# Altium footprint library Terminal_Block.PcbLib: 61 footprints (part 1 of 4)
Each footprint in its own frame and in the unit in brackets; x right, y up, seen from the top. Pads: shape width x height; smd on the part's side, far side on the other; paste and mask are expansions set on the pad; w line width, h text height; cw(c..) or ccw(c..) is an arc to the next point about the centre after c.
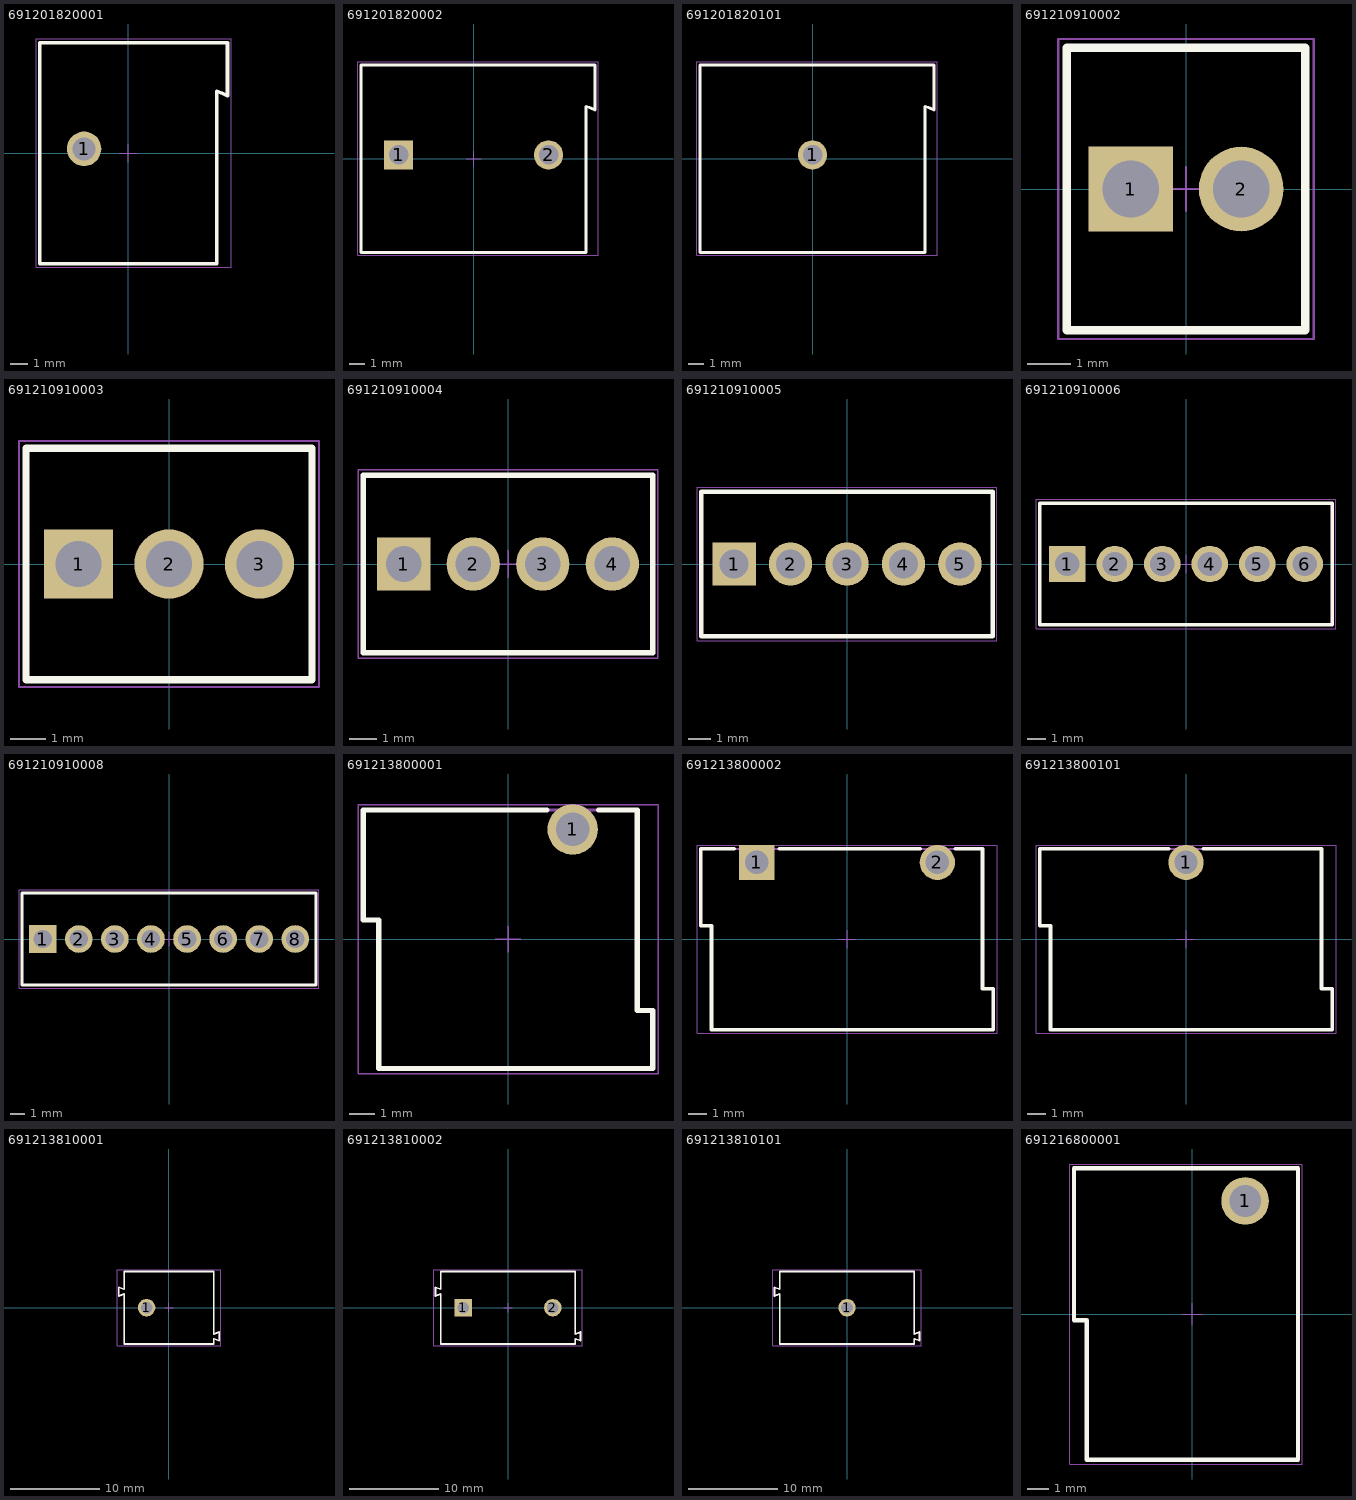
[diagram p0: the footprints below, top view; thin cyan lines are the x and y axes]

## 691201820001 [mm] "45° Cable Entry with Rising Cage Clamp, pitch 10mm, 01p"
height 12
pads (1):
  round 1.95 hole 1.3: 1(-2.5,0.25)
Top Overlay:
  lines w0.2: 4.998,-6.248 4.998,3.494 cw(c2.595,-3.291) 5.6,3.25 5.6,6.25 -5,6.25 -5,-6.25 5,-6.25
Mechanical 13:
  lines w0.1: 4.998,-6.248 4.998,3.494 cw(c2.595,-3.291) 5.6,3.25 5.6,6.25 -5,6.25 -5,-6.25 5,-6.25
Mechanical 15:
  lines w0.05: -0.5,0 0.5,0 ; 0,-0.5 0,0.5 ; -5.2,-6.45 -5.2,6.45 5.8,6.45 5.8,-6.45 -5.2,-6.45
3D body "691201820001.stp": height 12.1, standoff -4.4, extent -5,-6.25 5.6,6.25

## 691201820002 [mm] "45° Cable Entry with Rising Cage Clamp, pitch 10mm, 02p"
height 12
pads (2):
  rect 1.95x1.95 hole 1.3: 1(-5,0.25)
  round 1.95 hole 1.3: 2(5,0.25)
Top Overlay:
  lines w0.2: 7.498,3.494 cw(c5.095,-3.291) 8.1,3.25 8.1,6.25 -7.5,6.25 -7.5,-6.25 7.5,-6.25 7.5,3.494
Mechanical 13:
  lines w0.1: 7.498,3.494 cw(c5.095,-3.291) 8.1,3.25 8.1,6.25 -7.5,6.25 -7.5,-6.25 7.5,-6.25 7.5,3.494
Mechanical 15:
  lines w0.05: -0.5,0 0.5,0 ; 0,-0.5 0,0.5 ; -7.7,-6.45 -7.7,6.45 8.3,6.45 8.3,-6.45 -7.7,-6.45
3D body "691201820002.stp": height 12.1, standoff -4.4, extent -7.5,-6.25 8.1,6.25

## 691201820101 [mm] "45° Cable Entry with Rising Cage Clamp, pitch 10mm, 01p"
height 12
pads (1):
  round 1.95 hole 1.3: 1(0,0.25)
Top Overlay:
  lines w0.2: 7.498,3.494 cw(c5.095,-3.291) 8.1,3.25 8.1,6.25 -7.5,6.25 -7.5,-6.25 7.5,-6.25 7.5,3.494
Mechanical 13:
  lines w0.1: 7.498,3.494 cw(c5.095,-3.291) 8.1,3.25 8.1,6.25 -7.5,6.25 -7.5,-6.25 7.5,-6.25 7.5,3.494
Mechanical 15:
  lines w0.05: -0.5,0 0.5,0 ; 0,-0.5 0,0.5 ; -7.7,-6.45 8.3,-6.45 8.3,6.45 -7.7,6.45 -7.7,-6.45
3D body "691201820101.stp": height 12.1, standoff -4.4, extent -7.5,-6.25 8.1,6.25

## 691210910002 [mm] "2,54mm - modular - green - Horizontal wire entry - Cage clamp - 0,8mm2 wires - 02p"
height 8.5
pads (2):
  rect 1.95x1.95 hole 1.3: 1(-1.27,0)
  round 1.95 hole 1.3: 2(1.27,0)
Top Overlay:
  lines w0.2: -2.74,-3.25 -2.74,3.25 2.74,3.25 2.74,-3.25 -2.74,-3.25
Mechanical 13:
  lines w0.1: -2.74,-3.25 2.74,-3.25 2.74,3.25 -2.74,3.25 -2.74,-3.25
Mechanical 15:
  lines w0.05: -0.5,0 0.5,0 ; 0,-0.5 0,0.5 ; -2.94,-3.45 2.94,-3.45 2.94,3.45 -2.94,3.45 -2.94,-3.45
3D body "691210910002.stp": height 8.55, standoff -3.45, extent -2.74,-3.25 2.74,3.25

## 691210910003 [mm] "2,54mm - modular - green - Horizontal wire entry - Cage clamp - 0,8mm2 wires - 03p"
height 8.5
pads (3):
  rect 1.95x1.95 hole 1.3: 1(-2.54,0)
  round 1.95 hole 1.3: 2(0,0) 3(2.54,0)
Top Overlay:
  lines w0.2: -4.01,-3.25 -4.01,3.25 4.01,3.25 4.01,-3.25 -4.01,-3.25
Mechanical 13:
  lines w0.1: -4.01,-3.25 4.01,-3.25 4.01,3.25 -4.01,3.25 -4.01,-3.25
Mechanical 15:
  lines w0.05: -0.5,0 0.5,0 ; 0,-0.5 0,0.5 ; -4.21,-3.45 4.21,-3.45 4.21,3.45 -4.21,3.45 -4.21,-3.45
3D body "691210910003.stp": height 8.55, standoff -3.45, extent -4.01,-3.25 4.01,3.25

## 691210910004 [mm] "2,54mm - modular - green - Horizontal wire entry - Cage clamp - 0,8mm2 wires - 04p"
height 8.5
pads (4):
  rect 1.95x1.95 hole 1.3: 1(-3.81,0)
  round 1.95 hole 1.3: 2(-1.27,0) 3(1.27,0) 4(3.81,0)
Top Overlay:
  lines w0.2: -5.28,-3.25 -5.28,3.25 5.28,3.25 5.28,-3.25 -5.28,-3.25
Mechanical 13:
  lines w0.1: -5.28,-3.25 5.28,-3.25 5.28,3.25 -5.28,3.25 -5.28,-3.25
Mechanical 15:
  lines w0.05: -0.5,0 0.5,0 ; 0,-0.5 0,0.5 ; -5.48,-3.45 5.48,-3.45 5.48,3.45 -5.48,3.45 -5.48,-3.45
3D body "691210910004.stp": height 8.55, standoff -3.45, extent -5.28,-3.25 5.28,3.25

## 691210910005 [mm] "2,54mm - modular - green - Horizontal wire entry - Cage clamp - 0,8mm2 wires - 05p"
height 8.5
pads (5):
  rect 1.95x1.95 hole 1.3: 1(-5.08,0)
  round 1.95 hole 1.3: 2(-2.54,0) 3(0,0) 4(2.54,0) 5(5.08,0)
Top Overlay:
  lines w0.2: -6.55,-3.25 6.55,-3.25 6.55,3.25 -6.55,3.25 -6.55,-3.25
Mechanical 13:
  lines w0.1: -6.55,-3.25 -6.55,3.25 6.55,3.25 6.55,-3.25 -6.55,-3.25
Mechanical 15:
  lines w0.05: -0.5,0 0.5,0 ; 0,-0.5 0,0.5 ; -6.75,-3.45 -6.75,3.45 6.75,3.45 6.75,-3.45 -6.75,-3.45
3D body "691210910005.stp": height 8.55, standoff -3.45, extent -6.55,-3.25 6.55,3.25

## 691210910006 [mm] "2,54mm - modular - green - Horizontal wire entry - Cage clamp - 0,8mm2 wires - 06p"
height 8.5
pads (6):
  rect 1.95x1.95 hole 1.3: 1(-6.35,0)
  round 1.95 hole 1.3: 2(-3.81,0) 3(-1.27,0) 4(1.27,0) 5(3.81,0) 6(6.35,0)
Top Overlay:
  lines w0.2: -7.82,-3.25 -7.82,3.25 7.82,3.25 7.82,-3.25 -7.82,-3.25
Mechanical 13:
  lines w0.1: -7.82,-3.25 7.82,-3.25 7.82,3.25 -7.82,3.25 -7.82,-3.25
Mechanical 15:
  lines w0.05: -0.5,0 0.5,0 ; 0,-0.5 0,0.5 ; -8.02,-3.45 8.02,-3.45 8.02,3.45 -8.02,3.45 -8.02,-3.45
3D body "691210910006.stp": height 8.55, standoff -3.45, extent -7.82,-3.25 7.82,3.25

## 691210910008 [mm] "2,54mm - modular - green - Horizontal wire entry - Cage clamp - 0,8mm2 wires - 08p"
height 8.5
pads (8):
  rect 1.95x1.95 hole 1.3: 1(-8.89,0)
  round 1.95 hole 1.3: 2(-6.35,0) 3(-3.81,0) 4(-1.27,0) 5(1.27,0) 6(3.81,0) 7(6.35,0) 8(8.89,0)
Top Overlay:
  lines w0.2: -10.36,-3.25 10.36,-3.25 10.36,3.25 -10.36,3.25 -10.36,-3.25
Mechanical 13:
  lines w0.1: -10.36,-3.25 -10.36,3.25 10.36,3.25 10.36,-3.25 -10.36,-3.25
Mechanical 15:
  lines w0.05: -0.5,0 0.5,0 ; 0,-0.5 0,0.5 ; -10.56,-3.45 -10.56,3.45 10.56,3.45 10.56,-3.45 -10.56,-3.45
3D body "691210910008.stp": height 8.55, standoff -3.45, extent -10.36,-3.25 10.36,3.25

## 691213800001 [mm] "Vertical Cable Entry with Rising Cage Clamp, pitch 10mm, 01p"
height 8.1
pads (1):
  round 1.95 hole 1.3: 1(2.5,4.25)
Top Overlay:
  lines w0.2: 1.5,5 -5.6,5 -5.6,0.75 -5,0.75 -5,-5 5.6,-5 5.6,-2.75 5,-2.75 5,5 3.5,5
Mechanical 13:
  lines w0.1: -5.6,0.75 -5,0.75 -5,-5 5.6,-5 5.6,-2.75 5,-2.75 5,5 -5.6,5 -5.6,0.75
Mechanical 15:
  lines w0.05: -0.5,0 0.5,0 ; 0,-0.5 0,0.5 ; -5.8,-5.2 -5.8,5.2 5.8,5.2 5.8,-5.2 -5.8,-5.2
3D body "691213800001.stp": height 8.2, standoff -3.4, extent -5.6,-5 5.6,5

## 691213800002 [mm] "Vertical Cable Entry with Rising Cage Clamp, pitch 10mm, 02p"
height 8.1
pads (2):
  rect 1.95x1.95 hole 1.3: 1(-5,4.25)
  round 1.95 hole 1.3: 2(5,4.25)
Top Overlay:
  lines w0.2: -6.25,5 -8.1,5 -8.1,0.75 -7.5,0.75 -7.5,-5 8.1,-5 8.1,-2.75 7.5,-2.75 7.5,5 6,5 ; -3.75,5 4.05,5
Mechanical 13:
  lines w0.1: -8.1,0.75 -8.1,5 7.5,5 7.5,-2.75 8.1,-2.75 8.1,-5 -7.5,-5 -7.5,0.75 -8.1,0.75
Mechanical 15:
  lines w0.05: -0.5,0 0.5,0 ; 0,-0.5 0,0.5 ; -8.3,-5.2 -8.3,5.2 8.3,5.2 8.3,-5.2 -8.3,-5.2
3D body "691213800002.stp": height 8.2, standoff -3.4, extent -8.1,-5 8.1,5

## 691213800101 [mm] "Vertical Cable Entry with Rising Cage Clamp, pitch 10mm, 01p"
height 8.1
pads (1):
  round 1.95 hole 1.3: 1(0,4.25)
Top Overlay:
  lines w0.2: -0.95,5 -8.1,5 -8.1,0.75 -7.5,0.75 -7.5,-5 8.1,-5 8.1,-2.75 7.5,-2.75 7.5,5 0.95,5
Mechanical 13:
  lines w0.1: -8.1,0.75 -8.1,5 7.5,5 7.5,-2.75 8.1,-2.75 8.1,-5 -7.5,-5 -7.5,0.75 -8.1,0.75
Mechanical 15:
  lines w0.05: -0.5,0 0.5,0 ; 0,-0.5 0,0.5 ; -8.3,-5.2 -8.3,5.2 8.3,5.2 8.3,-5.2 -8.3,-5.2
3D body "691213800101.stp": height 8.2, standoff -3.4, extent -8.1,-5 8.1,5

## 691213810001 [mm] "Horizontal Cable Entry with Rising Cage Clamp, pitch 10mm, 01p"
height 10
pads (1):
  round 1.95 hole 1.3: 1(-2.5,0)
Top Overlay:
  lines w0.2: -5.602,1.294 -5.602,2.294 ccw(c-2.597,8.835) -5,2.05 -5,4.05 5,4.05 ; -5.601,1.291 cw(c-2.502,-5.206) -5.002,1.544 -5.002,-4.048 ; -5,-4.05 5,-4.05 5,-3.45 cw(c2.597,-10.235) 5.602,-3.694 5.602,-2.694 ; 5.002,4.048 5.002,-2.944 ccw(c2.502,3.806) 5.601,-2.691
Mechanical 13:
  lines w0.1: -5.602,1.294 -5.602,2.294 ccw(c-2.597,8.835) -5,2.05 -5,4.05 5,4.05 ; -5.601,1.291 cw(c-2.502,-5.206) -5.002,1.544 -5.002,-4.048 ; -5,-4.05 5,-4.05 5,-3.45 cw(c2.597,-10.235) 5.602,-3.694 5.602,-2.694 ; 5.002,4.048 5.002,-2.944 ccw(c2.502,3.806) 5.601,-2.691
Mechanical 15:
  lines w0.05: -0.5,0 0.5,0 ; 0,-0.5 0,0.5 ; -5.8,-4.25 5.8,-4.25 5.8,4.25 -5.8,4.25 -5.8,-4.25
3D body "691213810001.stp": height 10.14, standoff -3.36, extent -5.6,-4.05 5.6,4.05

## 691213810002 [mm] "Horizontal Cable Entry with Rising Cage Clamp, pitch 10mm, 02p"
height 10
pads (2):
  rect 1.95x1.95 hole 1.3: 1(-5,0)
  round 1.95 hole 1.3: 2(5,0)
Top Overlay:
  lines w0.2: -8.102,1.294 -8.102,2.294 ccw(c-5.097,8.835) -7.5,2.05 -7.5,4.05 7.5,4.05 7.5,-2.944 ccw(c5,3.806) 8.099,-2.691 ; -8.101,1.291 cw(c-5.002,-5.206) -7.502,1.544 ; -7.5,1.544 -7.5,-4.05 7.5,-4.05 7.5,-3.45 ; 7.498,-3.45 cw(c5.095,-10.235) 8.1,-3.694 8.1,-2.694
Mechanical 13:
  lines w0.1: -8.102,1.294 -8.102,2.294 ccw(c-5.097,8.835) -7.5,2.05 -7.5,4.05 7.5,4.05 7.5,-2.944 ccw(c5,3.806) 8.099,-2.691 ; -8.101,1.291 cw(c-5.002,-5.206) -7.502,1.544 ; -7.5,1.544 -7.5,-4.05 7.5,-4.05 7.5,-3.45 ; 7.498,-3.45 cw(c5.095,-10.235) 8.1,-3.694 8.1,-2.694
Mechanical 15:
  lines w0.05: -0.5,0 0.5,0 ; 0,-0.5 0,0.5 ; -8.3,-4.25 8.3,-4.25 8.3,4.25 -8.3,4.25 -8.3,-4.25
3D body "691213810002.stp": height 10.1, standoff -3.4, extent -8.1,-4.05 8.1,4.05

## 691213810101 [mm] "Horizontal Cable Entry with Rising Cage Clamp, pitch 10mm, 01p"
height 10
pads (1):
  round 1.95 hole 1.3: 1(0,0)
Top Overlay:
  lines w0.2: -8.102,1.294 -8.102,2.294 ccw(c-5.097,8.835) -7.5,2.05 -7.5,4.05 7.5,4.05 7.5,-2.944 ccw(c5,3.806) 8.099,-2.691 ; -8.101,1.291 cw(c-5.002,-5.206) -7.502,1.544 ; -7.5,1.544 -7.5,-4.05 7.5,-4.05 7.5,-3.45 ; 7.498,-3.45 cw(c5.095,-10.235) 8.1,-3.694 8.1,-2.694
Mechanical 13:
  lines w0.1: -8.102,1.294 -8.102,2.294 ccw(c-5.097,8.835) -7.5,2.05 -7.5,4.05 7.5,4.05 7.5,-2.944 ccw(c5,3.806) 8.099,-2.691 ; -8.101,1.291 cw(c-5.002,-5.206) -7.502,1.544 ; -7.5,1.544 -7.5,-4.05 7.5,-4.05 7.5,-3.45 ; 7.498,-3.45 cw(c5.095,-10.235) 8.1,-3.694 8.1,-2.694
Mechanical 15:
  lines w0.05: -0.5,0 0.5,0 ; 0,-0.5 0,0.5 ; -8.3,-4.25 -8.3,4.25 8.3,4.25 8.3,-4.25 -8.3,-4.25
3D body "691213810101.stp": height 10.14, standoff -3.36, extent -8.1,-4.05 8.1,4.05

## 691216800001 [mm] "Vertical Cable Entry with Rising Cage Clamp, pitch 10mm, 01p"
height 9.8
pads (1):
  round 2.25 hole 1.5: 1(2.5,5.35)
Top Overlay:
  lines w0.2: -5.6,-0.3 -5.6,6.9 5,6.9 5,-6.9 -5,-6.9 -5,-0.3 -5.6,-0.3
Mechanical 13:
  lines w0.1: -5.6,-0.3 -5,-0.3 -5,-6.9 5,-6.9 5,6.9 -5.6,6.9 -5.6,-0.3
Mechanical 15:
  lines w0.05: -0.5,0 0.5,0 ; 0,-0.5 0,0.5 ; -5.8,-7.1 5.2,-7.1 5.2,7.1 -5.8,7.1 -5.8,-7.1
3D body "691216800001.stp": height 9.9, standoff -3.4, extent -5.6,-6.9 5,6.9